# Altium schematic symbol library RECEPTOR_AIS_R00.SchLib: 29 symbols
Pins are listed as number, name and electrical type; pins without a type are passive.

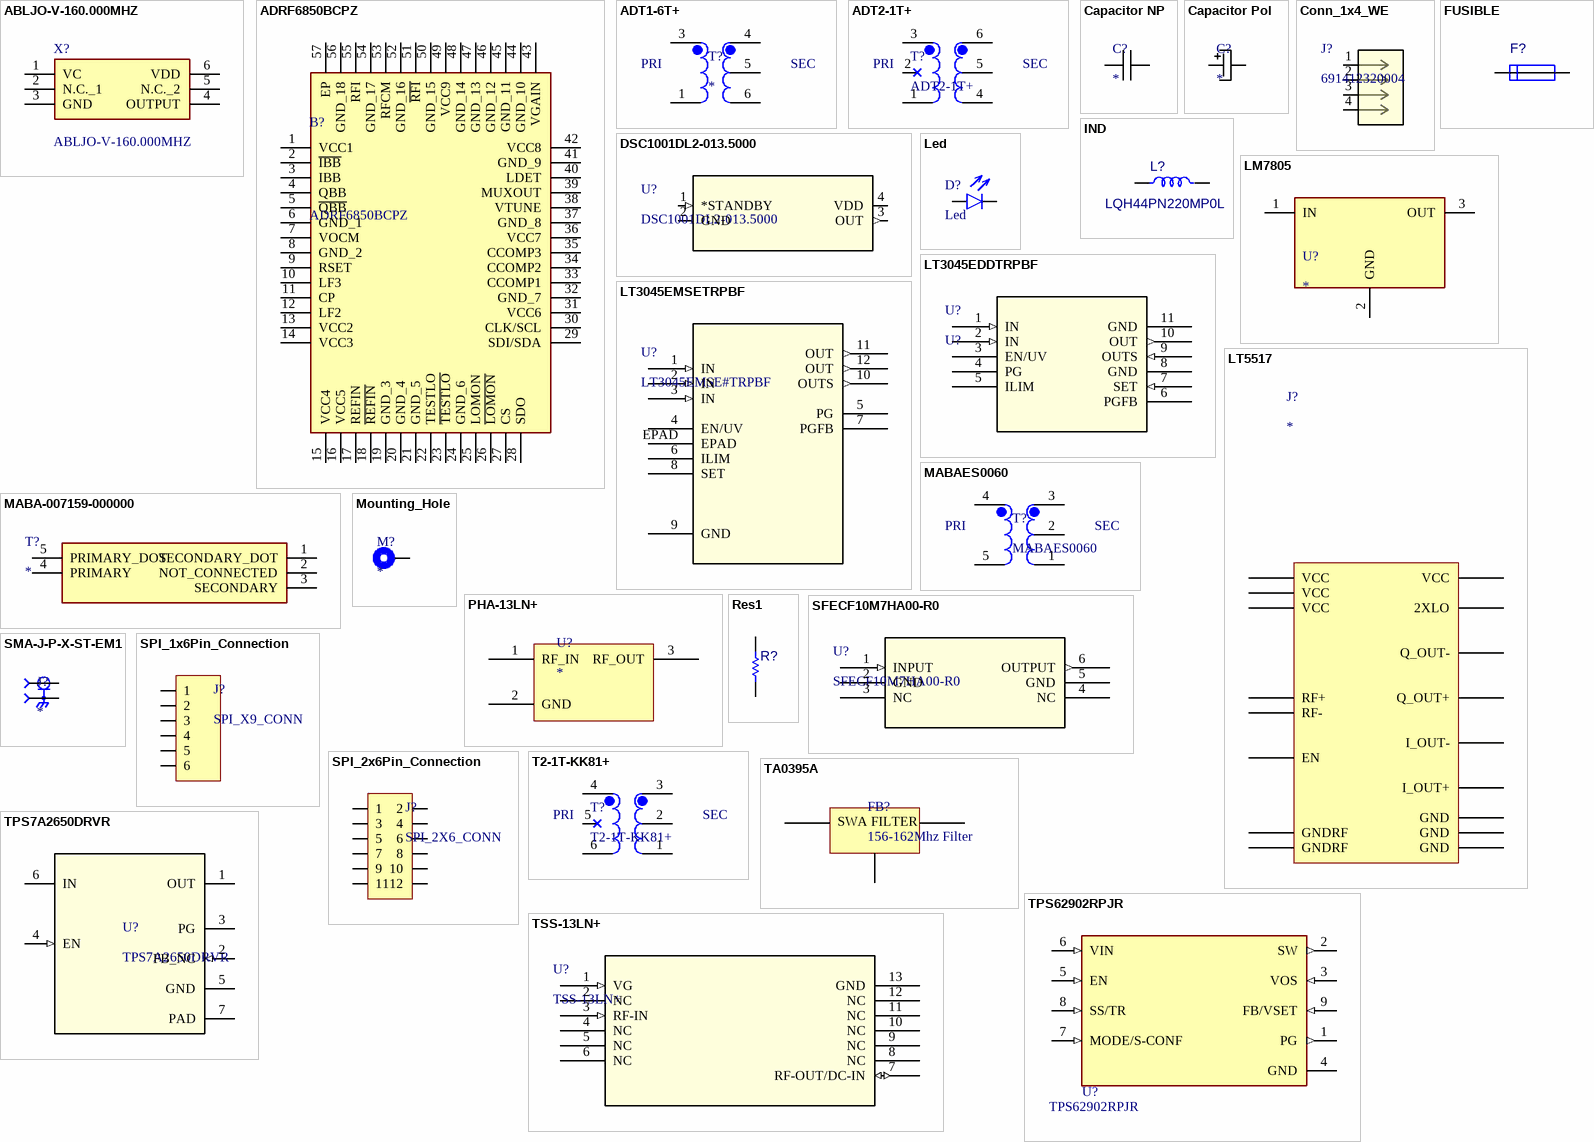
[diagram p0: symbols ABLJO-V-160.000MHZ to TSS-13LN+]

## ABLJO-V-160.000MHZ
designator X?
LOW JITTER CRYSTAL OSCILLATOR 160 MHz VCXO LVCMOS Oscillator 3.3V 6-SMD, No Lead; Manufacturer_Name: ABRACON; Geometry.Height: 5.5mm; Mouser Part Number: 815-ABLJO-V160M; Mouser Price/Stock: https://www.mouser.co.uk/ProductDetail/ABRACON/ABLJO-V-160000MHZ/?qs=%252BG2H6gVb6izjm9fAhCoRFA%3D%3D; Manufacturer_Part_Number: ABLJO-V-160.000MHZ; Datasheet Link: https://abracon.com/Precisiontiming/ABLJO.pdf
footprint ABLJOV160000MHZ
pins: 1 VC, 2 N.C._1, 3 GND, 4 OUTPUT, 5 N.C._2, 6 VDD

## ADRF6850BCPZ
designator B?
ADRF6850BCPZ, Demodulator Quadrature 250MHz 3.15  3.45 V 56-Pin LFCSP VQ; Manufacturer_Name: Analog Devices; Geometry.Height: 1mm; Mouser Part Number: 584-ADRF6850BCPZ; Mouser Price/Stock: https://www.mouser.co.uk/ProductDetail/Analog-Devices/ADRF6850BCPZ?qs=WIvQP4zGanhitN%252B3d2%252BYqw%3D%3D; Manufacturer_Part_Number: ADRF6850BCPZ; Datasheet Link: https://componentsearchengine.com/Datasheets/2/ADRF6850BCPZ.pdf
footprint QFN50P800X800X100-57N-D
pins: 1 VCC1, 2 ~{IBB}, 3 IBB, 4 QBB, 5 ~{QBB}, 6 GND_1, 7 VOCM, 8 GND_2, 9 RSET, 10 LF3, 11 CP, 12 LF2, 13 VCC2, 14 VCC3, 15 VCC4, 16 VCC5, 17 REFIN, 18 ~{REFIN}, 19 GND_3, 20 GND_4, 21 GND_5, 22 TESTLO, 23 ~{TESTLO}, 24 GND_6, 25 LOMON, 26 ~{LOMON}, 27 CS, 28 SDO, 29 SDI/SDA, 30 CLK/SCL, 31 VCC6, 32 GND_7, 33 CCOMP1, 34 CCOMP2, 35 CCOMP3, 36 VCC7, 37 GND_8, 38 VTUNE, 39 MUXOUT, 40 LDET, 41 GND_9, 42 VCC8, 43 VGAIN, 44 GND_10, 45 GND_11, 46 GND_12, 47 GND_13, 48 GND_14, 49 VCC9, 50 GND_15, 51 ~{RFI}, 52 GND_16, 53 RFCM, 54 GND_17, 55 RFI, 56 GND_18, 57 EP

## ADT1-6T+
designator T?
RF Balun 30kHz ~ 125MHz 50 / 50Ohm 6-SMD, Flat Leads; MF: Mini-Circuits; MP: ADT1-6T+; SnapEDA_Link: https://www.snapeda.com/parts/ADT1-6T+/Mini-Circuits/view-part/?ref=snap; Package: SMD-6 Mini-Circuits; Value: *; Check_prices: https://www.snapeda.com/parts/ADT1-6T+/Mini-Circuits/view-part/?ref=eda
footprint XFMR_ADT1-6T+
pins: 1, 3, 4, 5, 6
text: PRI; SEC

## ADT2-1T+
designator T?
Description; Manufacturer_Name: Mini Circuits; Type: Balun; Copyright: Copyright (C) 2026 Ultra Librarian. All rights reserved.; Manufacturer_Part_Number: ADT2-1T+; RefDes: RefDes
footprint CD542_MNC
pins: 1, 2, 3, 4, 5, 6
text: PRI; SEC

## Capacitor NP
designator C?
Capacitor ceramico
pins: 1, 2

## Capacitor Pol
designator C?
Capacitor polarizado
pins: 1 (power), 2 (power)

## Conn_1x4_WE
designator J?, comment 691412320004
WR-TBL Terminal block - Screwless Push IN - THT; Manufacturer_Name: Wurth Electronics; Copyright: Copyright (C) 2025 Ultra Librarian. All rights reserved.; Manufacturer_Part_Number: 691412320004; RefDes: RefDes; Type: Type
footprint CONN4_659x476_WRE
pins: 1, 2, 3, 4

## DSC1001DL2-013.5000
designator U?
13.5 MHz XO (Standard) CMOS Oscillator 1.7V ~ 3.6V Standby (Power Down) 4-VDFN; Manufacturer_Name: Microchip; Copyright: Copyright (C) 2026 Ultra Librarian. All rights reserved.; Manufacturer_Part_Number: DSC1001DL2-013.5000; RefDes: RefDes; Type: Type
footprint CDFN4_2P5X2_MCH
pins: 1 *STANDBY (in), 2 GND (power), 3 OUT (out), 4 VDD (power)

## FUSIBLE
designator F?
FUSIBLE
pins: 1, 2

## IND
designator L?, comment LQH44PN220MP0L
Inductor
pins: 1, 2

## Led
designator D?
footprint LED_0805
pins: 1 A (power) "Ground", 2 K (power) "Ground"

## LM7805
designator U?
Linear Voltage Regulator IC Positive Fixed 1 Output 1.5A DDPAK/TO-263-3; MP: LM7805; MF: Texas Instruments; Price: None; Availability: In Stock; Package: None; SnapEDA_Link: https://www.snapeda.com/parts/LM7805/Texas+Instruments/view-part/?ref=snap; Check_prices: https://www.snapeda.com/parts/LM7805/Texas+Instruments/view-part/?ref=eda; Value: *; Purchase-URL: https://pricing.snapeda.com/search/part/LM7805/?ref=eda
footprint TO220
pins: 1 IN, 2 GND, 3 OUT

## LT3045EDDTRPBF
designator U?, comment U?
LT3045EDD#TRPBF 20V, 500mA, Ultralow Noise, Ultrahigh PSRR Linear Regulator; Manufacturer: Analog Devices Inc; Manufacturer Part Number: LT3045EDD#TRPBF
footprint DD_05-08-1699_ADI
pins: 1 IN (in), 2 IN (in), 3 EN/UV, 4 PG, 5 ILIM, 6 PGFB, 7 SET (in), 8 GND (power), 9 OUTS (in), 10 OUT (out), 11 GND (power)

## LT3045EMSETRPBF
designator U?, comment LT3045EMSE#TRPBF
20V, 500mA, Ultralow Noise, Ultrahigh PSRR Linear Regulator; Manufacturer_Name: Analog Devices Inc; Copyright: Copyright (C) 2026 Ultra Librarian. All rights reserved.; Manufacturer_Part_Number: LT3045EMSE#TRPBF; RefDes: RefDes; Type: Type
footprint 12-MSOP-EP
pins: 1 IN (in), 2 IN (in), 3 IN (in), 4 EN/UV, 5 PG, 6 ILIM, 7 PGFB, 8 SET, 9 GND (power), 10 OUTS (out), 11 OUT (out), 12 OUT (out), EPAD

## LT5517
designator J?
Quadrature demodulator
pins: 1 GNDRF, 2 RF+, 3 RF-, 4 GNDRF, 5 EN, 6 VCC, 7 VCC, 8 VCC, 9 GND, 10 2XLO, 11 GND, 12 VCC, 13 Q_OUT-, 14 Q_OUT+, 15 I_OUT-, 16 I_OUT+, 17 GND

## MABA-007159-000000
designator T?
Transformer; Manufacturer_Name: MACOM; Manufacturer_Part_Number: MABA-007159-000000; Datasheet Link: http://cdn.macom.com/datasheets/MABA-007159-000000.pdf; Mouser Part Number: 937-MABA007159000000; Mouser Price/Stock: https://www.mouser.co.uk/ProductDetail/MACOM/MABA-007159-000000?qs=3Wmz%2FrCSAaFBkdkj62uXUA%3D%3D
footprint MABA-007159-000000_1
pins: 1 SECONDARY_DOT, 2 NOT_CONNECTED, 3 SECONDARY, 4 PRIMARY, 5 PRIMARY_DOT

## MABAES0060
designator T?
RF Balun 300kHz ~ 200MHz 1:1 6-SMD (5 Leads), Flat Lead; MF: Mini-Circuits; MP: ADT1-6T+; SnapEDA_Link: https://www.snapeda.com/parts/ADT1-6T+/Mini-Circuits/view-part/?ref=snap; Package: SMD-6 Mini-Circuits; Value: *; Check_prices: https://www.snapeda.com/parts/ADT1-6T+/Mini-Circuits/view-part/?ref=eda
footprint MABAES0060_MCM
pins: 1, 2, 3, 4, 5
text: PRI; SEC

## Mounting_Hole
designator M?
footprint Mounting_Hole_M3
footprint Mounting_Hole_M2
pins: 1 (power) "Ground"

## PHA-13LN+
designator U?
LNA
pins: 1 RF_IN, 2 GND, 3 RF_OUT

## Res1
designator R?
Resistor
pins: 1, 2

## SFECF10M7HA00-R0
designator U?
Filtro Cerámico PAsabanda 10.7MHz BW 180kHz; Manufacturer_Name: Murata; Copyright: Copyright (C) 2026 Ultra Librarian. All rights reserved.; Manufacturer_Part_Number: SFECF10M7HA00-R0; RefDes: RefDes; Type: Type
footprint SFECF10M7HA00-R0_MUR
pins: 1 INPUT (in), 2 GND (power), 3 NC, 4 NC, 5 GND (power), 6 OUTPUT (out)

## SMA-J-P-X-ST-EM1
designator J?
SMA Connector Jack, Female Socket 50 Ohms Board Edge, Cutout; Surface Mount Solder; MF: Samtec; MP: SMA-J-P-H-ST-EM3; SnapEDA_Link: https://www.snapeda.com/parts/SMA-J-P-H-ST-EM3/Samtec+Inc./view-part/?ref=snap; Package: None; Value: *; Check_prices: https://www.snapeda.com/parts/SMA-J-P-H-ST-EM3/Samtec+Inc./view-part/?ref=eda
footprint CONN_SMA-J-P-H-ST-EM1_SAI
pins: 1, 2, 3 2

## SPI_1x6Pin_Connection
designator J?, comment SPI_X9_CONN
footprint SAMTEC_TS-106-T-A
pins: 1, 2, 3, 4, 5, 6

## SPI_2x6Pin_Connection
designator J?, comment SPI_2X6_CONN
footprint Pin_Header_2x6
pins: 1, 2, 3, 4, 5, 6, 7 (power) "Ground", 8 (power) "Ground", 9 (power) "Ground", 10 (power) "Ground", 11 (power) "Ground", 12 (power) "Ground"

## T2-1T-KK81+
designator T?
RF Balun 70kHz ~ 200MHz 1:2 6-SMD, Gull Wing; Manufacturer_Name: Mini Circuits; Manufacturer_Part_Number: ADT2-1T+; Type: Balun; Copyright: Copyright (C) 2026 Ultra Librarian. All rights reserved.; RefDes: RefDes
footprint T2-1T-KK81+ (RF Balun 70kHz ~ 200MHz 1:2 6-SMD, Gull Wing)
pins: 1, 2, 3, 4, 5, 6
text: PRI; SEC

## TA0395A
designator FB?, comment 156-162Mhz Filter
RF_Filter
pins: 1, 2, 3, 4, 5, 6, 7, 8, 9, 10
text: SWA FILTER

## TPS7A2650DRVR
designator U?
500-mA, 18-V, ultra-low-IQ, high-accuracy, adjustable low-dropout voltage regulator with power good 6-WSON -40 to 125; Manufacturer_Name: Texas Instruments; TYPE: TYPE; RefDes: RefDes; Copyright: Copyright (C) 2025 Ultra Librarian. All rights reserved.; Manufacturer_Part_Number: TPS7A2650DRVR
footprint DRV0006A_NV
pins: 1 OUT (power), 2 FB_NC (in), 3 PG (oc), 4 EN (in), 5 GND (power), 6 IN (power), 7 PAD

## TPS62902RPJR
designator U?, comment U?  Manufacturer Part Number: TPS62902RPJR
TPS62902RPJR 3-V TO 17-V, 2-A, HIGH-EFFICIENC
footprint FP-RPJ0009A-MFG
pins: 1 PG (out), 2 SW (out), 3 VOS (in), 4 GND (power), 5 EN (in), 6 VIN (in), 7 MODE/S-CONF (in), 8 SS/TR (in), 9 FB/VSET (in)

## TSS-13LN+
designator U?
Description; Manufacturer_Name: Mini Circuits; Copyright: Copyright (C) 2025 Ultra Librarian. All rights reserved.; Manufacturer_Part_Number: TSS-13LN+; RefDes: RefDes; Type: Type
footprint DQ1225_MNC
pins: 1 VG (in), 2 NC, 3 RF-IN (in), 4 NC, 5 NC, 6 NC, 7 RF-OUT/DC-IN (io), 8 NC, 9 NC, 10 NC, 11 NC, 12 NC, 13 GND (power)